# Altium schematic symbol library SCH - POWER - LINEAR VREG - TI LM317M_KVU_3.SchLib: 1 symbol
Pins are listed as number, name and electrical type; pins without a type are passive.

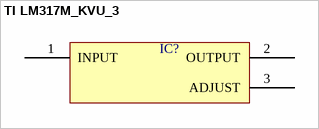
[diagram p0: symbol TI LM317M_KVU_3]

## TI LM317M_KVU_3
designator IC?  (value not drawn)
pins: 1 INPUT, 2 OUTPUT, 3 ADJUST